# Altium footprint library samtec-smh.PcbLib: 1 footprints
Each footprint in its own frame and in the unit in brackets; x right, y up, seen from the top. Pads: shape width x height; smd on the part's side, far side on the other; paste and mask are expansions set on the pad; w line width, h text height; cw(c..) or ccw(c..) is an arc to the next point about the centre after c.
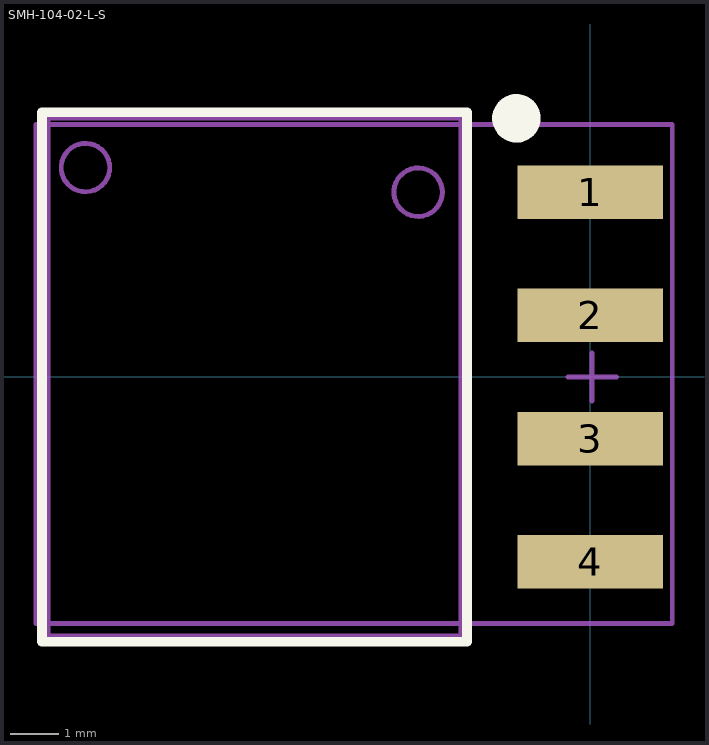
[diagram p0: the footprint, top view; thin cyan lines are the x and y axes]

## SMH-104-02-L-S [mm] "4pos, 2.54mm, SMT Horizontal Socket"
height 2.41
pads (4):
  rect 3x1.1 smd: 1(0,3.81) 2(0,1.27) 3(0,-1.27) 4(0,-3.81)
Top Overlay:
  circle w0.5: c-1.52,5.334 r0.25
  lines w0.2: -11.303,-5.461 -11.303,5.461 -2.54,5.461 -2.54,-5.461 -11.303,-5.461
Mechanical 13:
  circle w0.1: c-3.548,3.81 r0.5
  lines w0.1: -11.176,-5.334 -11.176,5.334 -2.667,5.334 -2.667,-5.334 -11.176,-5.334
  text ".Designator" at 0.19,-1.65 h0.5
Mechanical 15:
  circle w0.1: c-10.406,4.318 r0.5
  lines w0.1: -0.46,0 0.54,0 ; 0.04,-0.5 0.04,0.5 ; -11.43,-5.08 -11.43,5.207 1.691,5.207 1.691,-5.08 -11.43,-5.08
3D body: height 2.43, standoff 0.02, extent -11.176,-5.334 0.762,5.334